# Altium schematic symbol library Schlib1.SchLib: 56 symbols
Pins are listed as number, name and electrical type; pins without a type are passive.

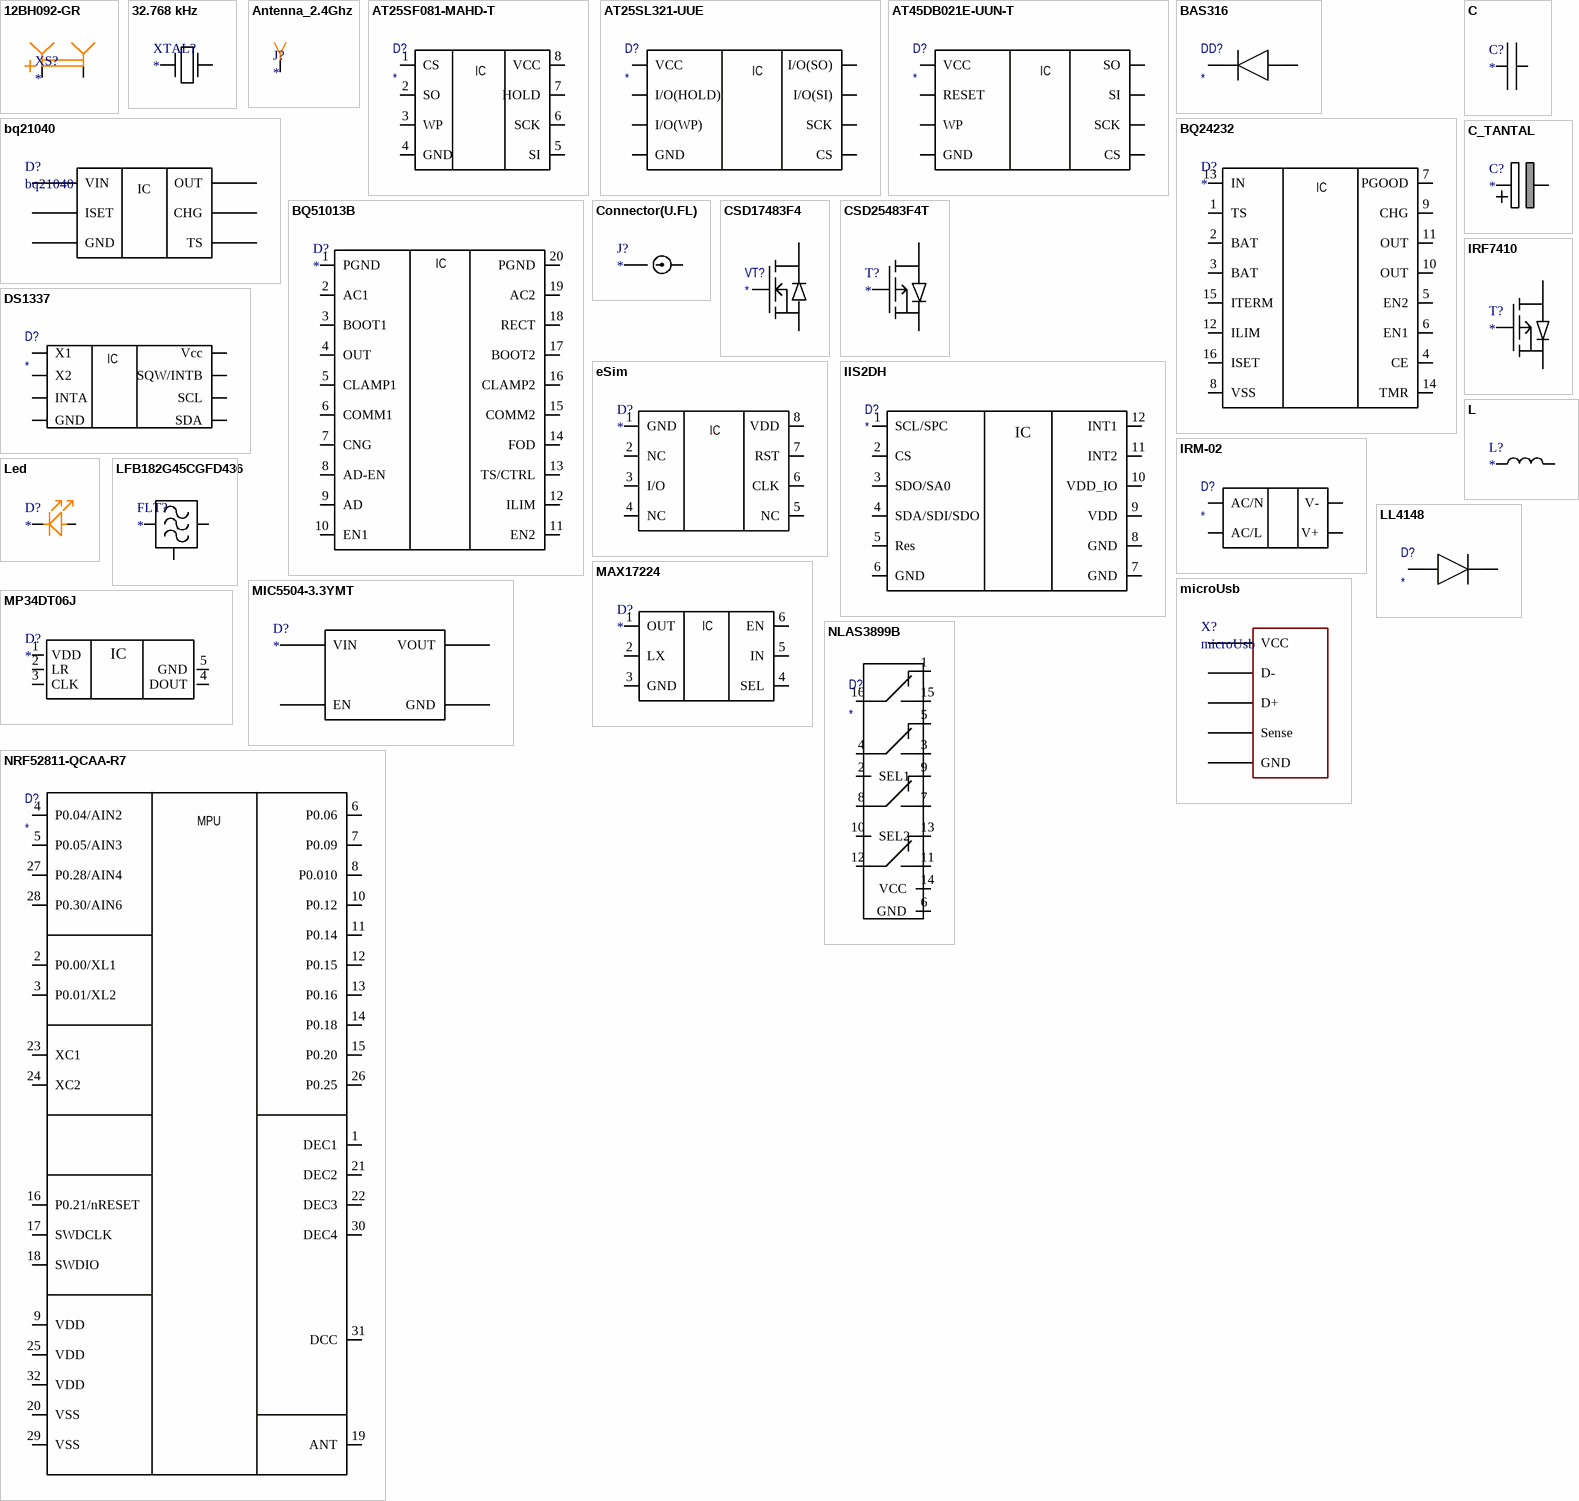
[diagram p0: symbols 12BH092-GR to NRF52811-QCAA-R7]

## 12BH092-GR
designator XS?
footprint 12BH092-GR
pins: 1, 2

## 32.768 kHz
designator XTAL?
footprint NX2012SA
footprint SP-T2A-F
footprint NX3215SA
pins: 1, 2

## Antenna_2.4Ghz
designator J?
footprint Antenna_2.4Ghz
pins: 1

## AT25SF081-MAHD-T
designator D?
footprint UDFN8
pins: 1 CS, 2 SO, 3 WP, 4 GND, 5 SI, 6 SCK, 7 HOLD, 8 VCC
text: IC

## AT25SL321-UUE
designator D?
footprint 8WLCSP
pins: A1 VCC, A2 CS, B1 I/O(HOLD), B2 I/O(SO), C1 SCK, C2 I/O(WP), D1 I/O(SI), D2 GND
text: IC

## AT45DB021E-UUN-T
designator D?
footprint 8WLCSP
pins: A1 CS, A2 WP, B1 RESET, B2 VCC, C1 SCK, C2 GND, D1 SI, D2 SO
text: IC

## BAS316
designator DD?
footprint BAS316
pins: 1, 2

## bq21040
designator D?
footprint SOT-23
pins: 1 TS, 2 OUT, 3 CHG, 4 ISET, 5 GND, 6 VIN
text: IC

## BQ24232
designator D?
footprint VQFN-16
pins: 1 TS, 2 BAT, 3 BAT, 4 CE, 5 EN2, 6 EN1, 7 PGOOD, 8 VSS, 9 CHG, 10 OUT, 11 OUT, 12 ILIM, 13 IN, 14 TMR, 15 ITERM, 16 ISET
text: IC

## BQ51013B
designator D?
footprint VQFN20
footprint DSBGA
pins: 1 PGND, 2 AC1, 3 BOOT1, 4 OUT, 5 CLAMP1, 6 COMM1, 7 CNG, 8 AD-EN, 9 AD, 10 EN1, 11 EN2, 12 ILIM, 13 TS/CTRL, 14 FOD, 15 COMM2, 16 CLAMP2, 17 BOOT2, 18 RECT, 19 AC2, 20 PGND
text: IC

## C
designator C?
footprint C0402
footprint C0805
pins: 1, 2

## C_TANTAL
designator C?
footprint C_TYPE_D
pins: 1, 2

## Connector(U.FL)
designator J?
footprint U.FL
pins: 1, 2

## CSD17483F4
designator VT?
footprint CSD17483F4
pins: 1, 2, 3

## CSD25483F4T
designator T?
footprint CSD17483F4
pins: 1, 2, 3

## DS1337
designator D?
footprint uSOP8
pins: 1 X1, 2 X2, 3 INTA, 4 GND, 5 SDA, 6 SCL, 7 SQW/INTB, 8 Vcc
text: IC

## eSim
designator D?
footprint VQFN8
pins: 1 GND, 2 NC, 3 I/O, 4 NC, 5 NC, 6 CLK, 7 RST, 8 VDD
text: IC

## IIS2DH
designator D?
footprint LGA12
pins: 1 SCL/SPC, 2 CS, 3 SDO/SA0, 4 SDA/SDI/SDO, 5 Res, 6 GND, 7 GND, 8 GND, 9 VDD, 10 VDD_IO, 11 INT2, 12 INT1
text: IC

## IRF7410
designator T?
footprint SO8
pins: 1, 4, 5

## IRM-02
designator D?
footprint IRM-02
pins: 1 V-, 2 V+, 3 AC/L, 4 AC/N

## L
designator L?
footprint L0402
footprint L0805
footprint L1608
footprint L2016
pins: 1, 2

## Led
designator D?
footprint D0402(1006)
footprint SMD2106
pins: 1, 2

## LFB182G45CGFD436
designator FLT?
footprint LFB182G45CGFD436
pins: 1, 2, 3

## LL4148
designator D?
footprint LL4148
pins: 1, 2

## MAX17224
designator D?
footprint uDFN-6
pins: 1 OUT, 2 LX, 3 GND, 4 SEL, 5 IN, 6 EN
text: IC

## MIC5504-3.3YMT
designator D?
footprint TDFN4
pins: 1 VOUT, 2 GND, 3 EN, 4 VIN

## microUsb
designator X?
footprint 10118194-0001LF
pins: 1 VCC, 2 D-, 3 D+, 4 Sense, 5 GND

## MP34DT06J
designator D?
footprint MP34DT06J
pins: 1 VDD, 2 LR, 3 CLK, 4 DOUT, 5 GND
text: IC

## NLAS3899B
designator D?
footprint QFN16
pins: 1, 2 SEL1, 3, 4, 5, 6 GND, 7, 8, 9, 10 SEL2, 11, 12, 13, 14 VCC, 15, 16

## NRF52811-QCAA-R7
designator D?
footprint QFN32_nrf52811
pins: 1 DEC1, 2 P0.00/XL1, 3 P0.01/XL2, 4 P0.04/AIN2, 5 P0.05/AIN3, 6 P0.06, 7 P0.09, 8 P0.010, 9 VDD, 10 P0.12, 11 P0.14, 12 P0.15, 13 P0.16, 14 P0.18, 15 P0.20, 16 P0.21/nRESET, 17 SWDCLK, 18 SWDIO, 19 ANT, 20 VSS, 21 DEC2, 22 DEC3, 23 XC1, 24 XC2, 25 VDD, 26 P0.25, 27 P0.28/AIN4, 28 P0.30/AIN6, 29 VSS, 30 DEC4, 31 DCC, 32 VDD
text: MPU

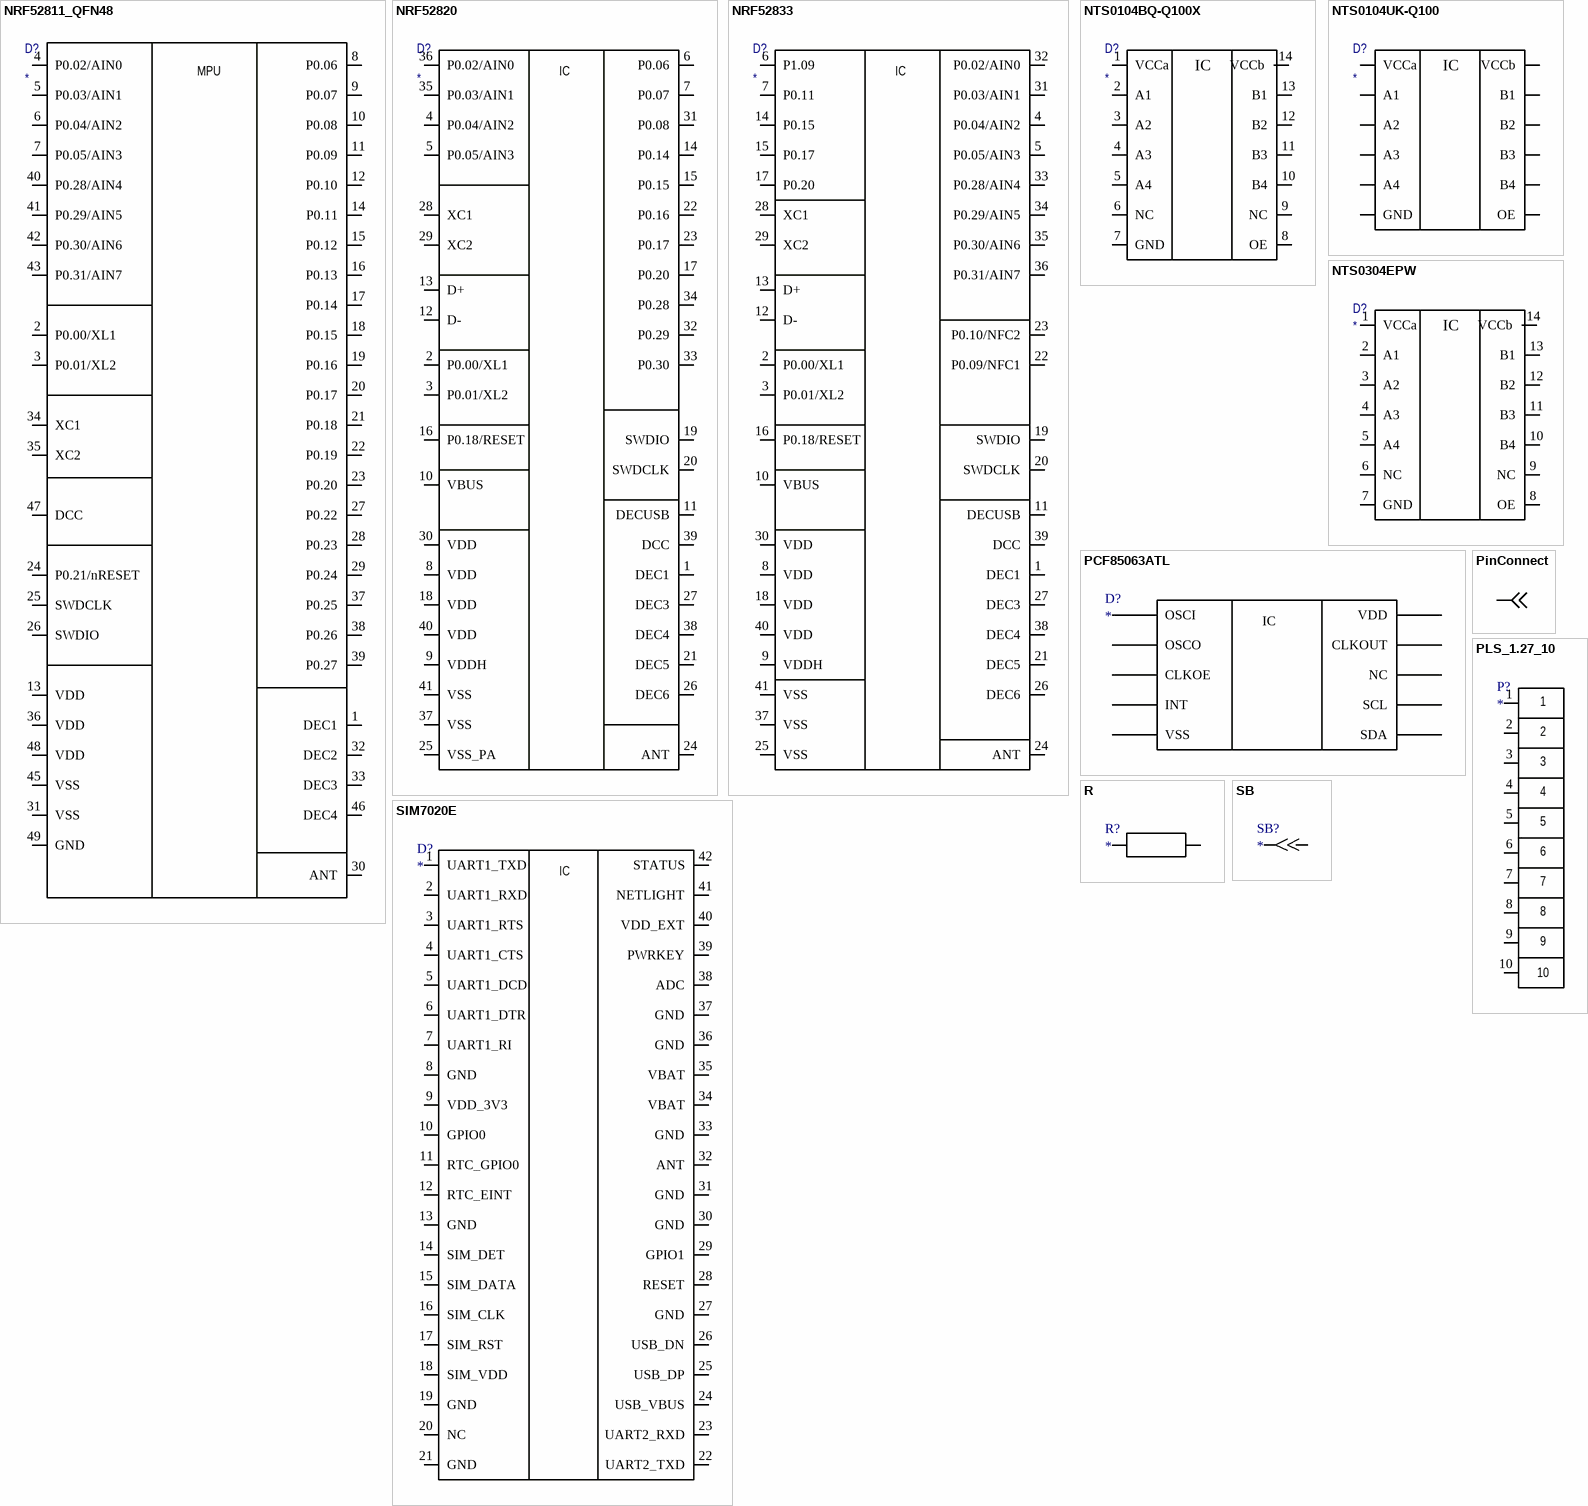
[diagram p1: symbols NRF52811_QFN48 to SIM7020E]

## NRF52811_QFN48
designator D?
footprint QFN48
pins: 1 DEC1, 2 P0.00/XL1, 3 P0.01/XL2, 4 P0.02/AIN0, 5 P0.03/AIN1, 6 P0.04/AIN2, 7 P0.05/AIN3, 8 P0.06, 9 P0.07, 10 P0.08, 11 P0.09, 12 P0.10, 13 VDD, 14 P0.11, 15 P0.12, 16 P0.13, 17 P0.14, 18 P0.15, 19 P0.16, 20 P0.17, 21 P0.18, 22 P0.19, 23 P0.20, 24 P0.21/nRESET, 25 SWDCLK, 26 SWDIO, 27 P0.22, 28 P0.23, 29 P0.24, 30 ANT, 31 VSS, 32 DEC2, 33 DEC3, 34 XC1, 35 XC2, 36 VDD, 37 P0.25, 38 P0.26, 39 P0.27, 40 P0.28/AIN4, 41 P0.29/AIN5, 42 P0.30/AIN6, 43 P0.31/AIN7, 45 VSS, 46 DEC4, 47 DCC, 48 VDD, 49 GND
text: MPU

## NRF52820
designator D?
footprint QFN40
pins: 1 DEC1, 2 P0.00/XL1, 3 P0.01/XL2, 4 P0.04/AIN2, 5 P0.05/AIN3, 6 P0.06, 7 P0.07, 8 VDD, 9 VDDH, 10 VBUS, 11 DECUSB, 12 D-, 13 D+, 14 P0.14, 15 P0.15, 16 P0.18/RESET, 17 P0.20, 18 VDD, 19 SWDIO, 20 SWDCLK, 21 DEC5, 22 P0.16, 23 P0.17, 24 ANT, 25 VSS_PA, 26 DEC6, 27 DEC3, 28 XC1, 29 XC2, 30 VDD, 31 P0.08, 32 P0.29, 33 P0.30, 34 P0.28, 35 P0.03/AIN1, 36 P0.02/AIN0, 37 VSS, 38 DEC4, 39 DCC, 40 VDD, 41 VSS
text: IC

## NRF52833
designator D?
footprint QFN40
pins: 1 DEC1, 2 P0.00/XL1, 3 P0.01/XL2, 4 P0.04/AIN2, 5 P0.05/AIN3, 6 P1.09, 7 P0.11, 8 VDD, 9 VDDH, 10 VBUS, 11 DECUSB, 12 D-, 13 D+, 14 P0.15, 15 P0.17, 16 P0.18/RESET, 17 P0.20, 18 VDD, 19 SWDIO, 20 SWDCLK, 21 DEC5, 22 P0.09/NFC1, 23 P0.10/NFC2, 24 ANT, 25 VSS, 26 DEC6, 27 DEC3, 28 XC1, 29 XC2, 30 VDD, 31 P0.03/AIN1, 32 P0.02/AIN0, 33 P0.28/AIN4, 34 P0.29/AIN5, 35 P0.30/AIN6, 36 P0.31/AIN7, 37 VSS, 38 DEC4, 39 DCC, 40 VDD, 41 VSS
text: IC

## NTS0104BQ-Q100X
designator D?
footprint QFN14
pins: 1 VCCa, 2 A1, 3 A2, 4 A3, 5 A4, 6 NC, 7 GND, 8 OE, 9 NC, 10 B4, 11 B3, 12 B2, 13 B1, 14 VCCb
text: IC

## NTS0104UK-Q100
designator D?
footprint WLCSP12 (BGA, 12-Leads, Body 1,20x1,60mmx0,60mm, Pitch 0,40mm)
pins: A1 B1, A2 VCCb, A3 A1, B1 B2, B2 VCCa, B3 A2, C1 B3, C2 OE, C3 A3, D1 B4, D2 GND, D3 A4
text: IC

## NTS0304EPW
designator D?
footprint TSSOP14
pins: 1 VCCa, 2 A1, 3 A2, 4 A3, 5 A4, 6 NC, 7 GND, 8 OE, 9 NC, 10 B4, 11 B3, 12 B2, 13 B1, 14 VCCb
text: IC

## PCF85063ATL
designator D?
footprint DFN2626-10
pins: 1 OSCI, 2 OSCO, 3 CLKOE, 4 INT, 5 VSS, 6 SDA, 7 SCL, 8 NC, 9 CLKOUT, 10 VDD
text: IC

## PinConnect
designator X?  (value not drawn)
footprint PinConnect
footprint PinConnect2
footprint PINCONNECT3
pins: 1

## PLS_1.27_10
designator P?
footprint PLS_1.27_10
pins: 1, 2, 3, 4, 5, 6, 7, 8, 9, 10

## R
designator R?
footprint R0402
pins: 1, 2

## SB
designator SB?
footprint SB
pins: 1, 2

## SIM7020E
designator D?
footprint SIM7020E
pins: 1 UART1_TXD, 2 UART1_RXD, 3 UART1_RTS, 4 UART1_CTS, 5 UART1_DCD, 6 UART1_DTR, 7 UART1_RI, 8 GND, 9 VDD_3V3, 10 GPIO0, 11 RTC_GPIO0, 12 RTC_EINT, 13 GND, 14 SIM_DET, 15 SIM_DATA, 16 SIM_CLK, 17 SIM_RST, 18 SIM_VDD, 19 GND, 20 NC, 21 GND, 22 UART2_TXD, 23 UART2_RXD, 24 USB_VBUS, 25 USB_DP, 26 USB_DN, 27 GND, 28 RESET, 29 GPIO1, 30 GND, 31 GND, 32 ANT, 33 GND, 34 VBAT, 35 VBAT, 36 GND, 37 GND, 38 ADC, 39 PWRKEY, 40 VDD_EXT, 41 NETLIGHT, 42 STATUS
text: IC

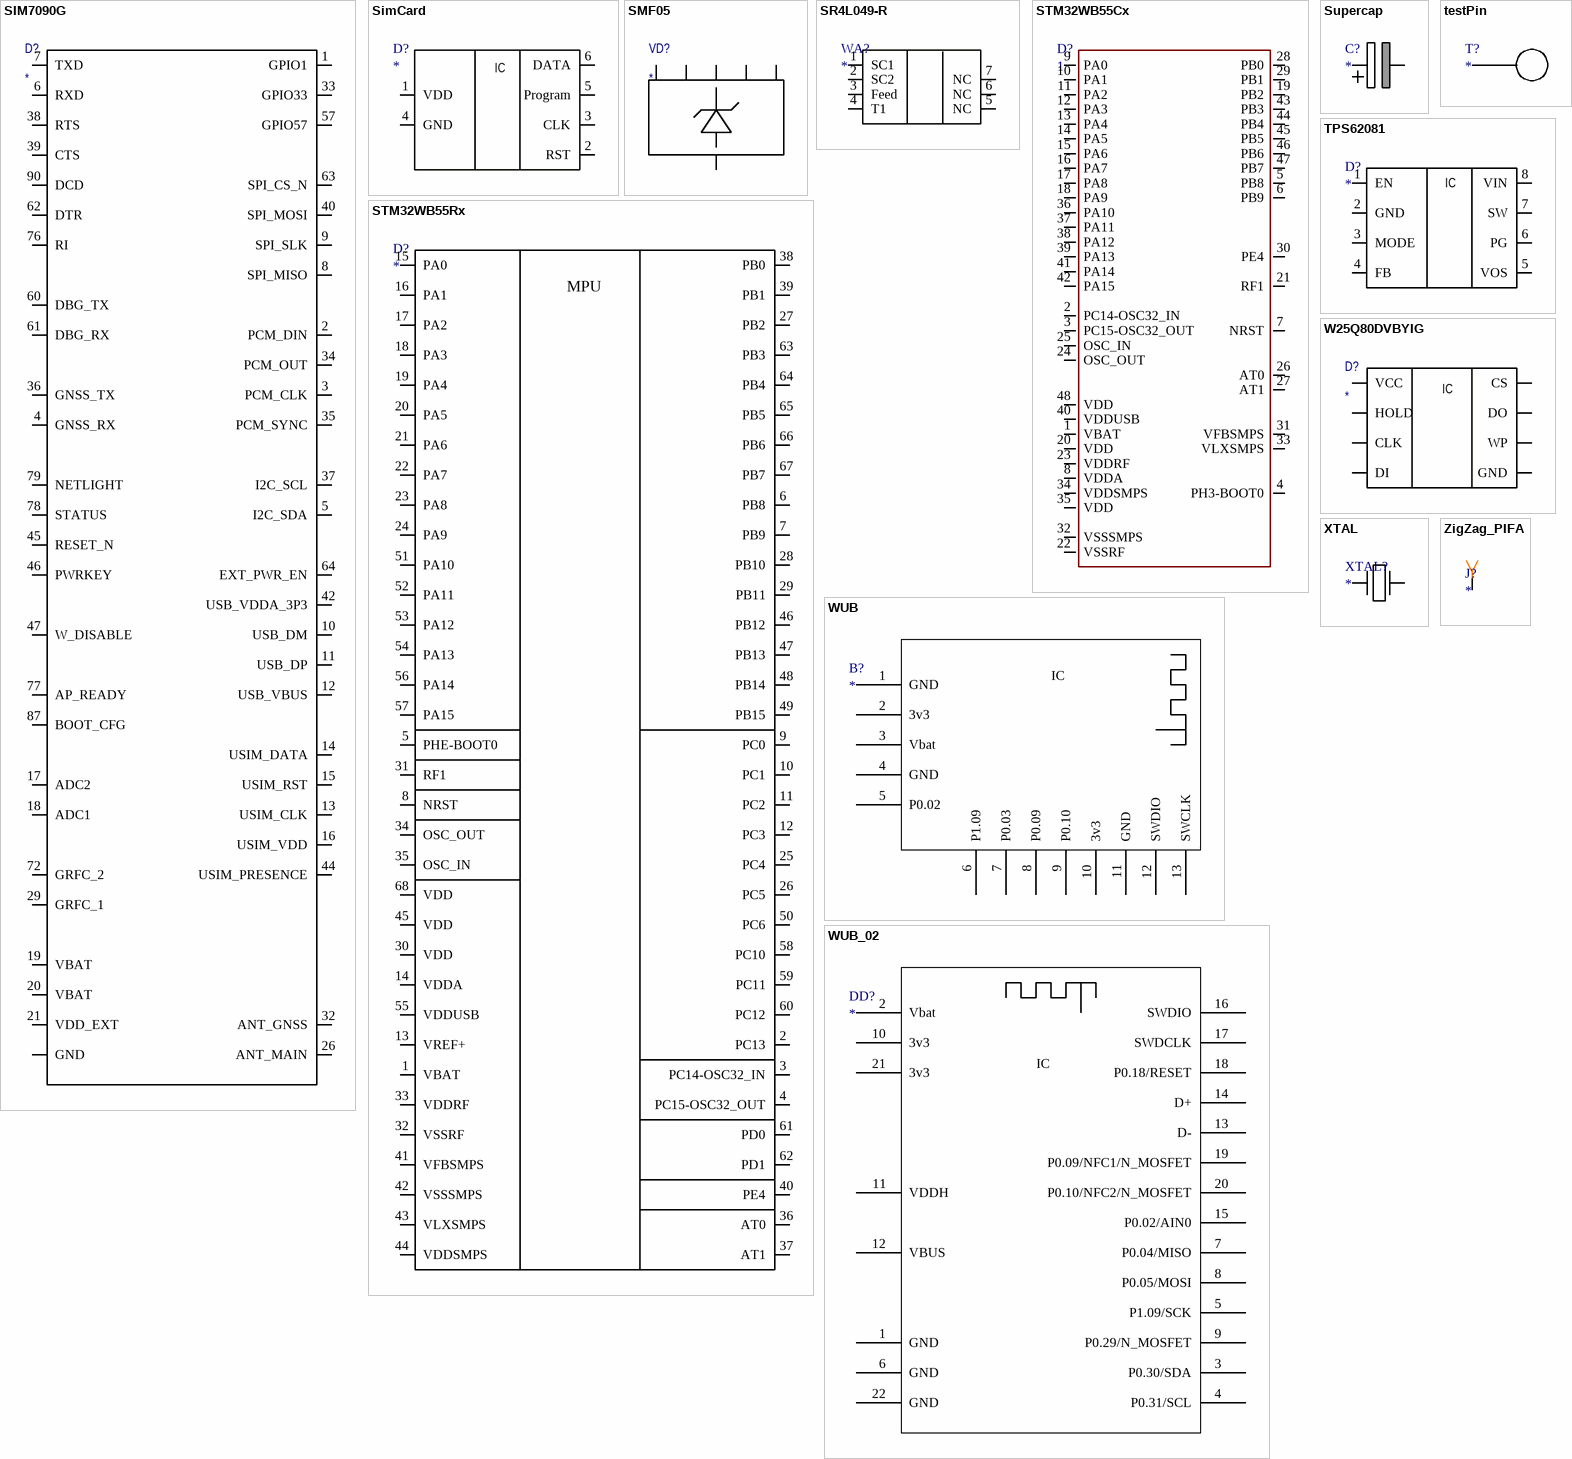
[diagram p2: symbols SIM7090G to ZigZag_PIFA]

## SIM7090G
designator D?
footprint SIM7090G
pins: 1 GPIO1, 2 PCM_DIN, 3 PCM_CLK, 4 GNSS_RX, 5 I2C_SDA, 6 RXD, 7 TXD, 8 SPI_MISO, 9 SPI_SLK, 10 USB_DM, 11 USB_DP, 12 USB_VBUS, 13 USIM_CLK, 14 USIM_DATA, 15 USIM_RST, 16 USIM_VDD, 17 ADC2, 18 ADC1, 19 VBAT, 20 VBAT, 21 VDD_EXT, 22 GND, 23 GND hidden to GND, 24 GND hidden to GND, 25 GND hidden to GND, 26 ANT_MAIN, 27 GND hidden to GND, 28 GND hidden to GND, 29 GRFC_1, 30 GND hidden to GND, 31 GND hidden to GND, 32 ANT_GNSS, 33 GPIO33, 34 PCM_OUT, 35 PCM_SYNC, 36 GNSS_TX, 37 I2C_SCL, 38 RTS, 39 CTS, 40 SPI_MOSI, 42 USB_VDDA_3P3, 43 GND hidden to GND, 44 USIM_PRESENCE, 45 RESET_N, 46 PWRKEY, 47 W_DISABLE, 52 GND hidden to GND, 53 GND hidden to GND, 54 GND hidden to GND, 55 GND hidden to GND, 56 GND hidden to GND, 57 GPIO57, 58 GND hidden to GND, 60 DBG_TX, 61 DBG_RX, 62 DTR, 63 SPI_CS_N, 64 EXT_PWR_EN, 65 GND hidden to GND, 66 GND hidden to GND, 72 GRFC_2, 73 GND hidden to GND, 74 GND hidden to GND, 75 GND hidden to GND, 76 RI, 77 AP_READY, 78 STATUS, 79 NETLIGHT, 84 GND hidden to GND, 85 GND hidden to GND, 86 GND hidden to GND, 87 BOOT_CFG, 88 GND hidden to GND, 89 GND hidden to GND, 90 DCD

## SimCard
designator D?
footprint 104224-0820
pins: 1 VDD, 2 RST, 3 CLK, 4 GND, 5 Program, 6 DATA
text: IC

## SMF05
designator VD?
footprint sot-363
pins: 1, 2, 3, 4, 5, 6

## SR4L049-R
designator WA?
footprint SR4L049-R
pins: 1 SC1, 2 SC2, 3 Feed, 4 T1, 5 NC, 6 NC, 7 NC

## STM32WB55Cx
designator D?, comment 1
footprint UFQFPN48
pins: 1 VBAT, 2 PC14-OSC32_IN, 3 PC15-OSC32_OUT, 4 PH3-BOOT0, 5 PB8, 6 PB9, 7 NRST, 8 VDDA, 9 PA0, 10 PA1, 11 PA2, 12 PA3, 13 PA4, 14 PA5, 15 PA6, 16 PA7, 17 PA8, 18 PA9, 19 PB2, 20 VDD, 21 RF1, 22 VSSRF, 23 VDDRF, 24 OSC_OUT, 25 OSC_IN, 26 AT0, 27 AT1, 28 PB0, 29 PB1, 30 PE4, 31 VFBSMPS, 32 VSSSMPS, 33 VLXSMPS, 34 VDDSMPS, 35 VDD, 36 PA10, 37 PA11, 38 PA12, 39 PA13, 40 VDDUSB, 41 PA14, 42 PA15, 43 PB3, 44 PB4, 45 PB5, 46 PB6, 47 PB7, 48 VDD

## STM32WB55Rx
designator D?
footprint VFQFPN68
pins: 1 VBAT, 2 PC13, 3 PC14-OSC32_IN, 4 PC15-OSC32_OUT, 5 PHE-BOOT0, 6 PB8, 7 PB9, 8 NRST, 9 PC0, 10 PC1, 11 PC2, 12 PC3, 13 VREF+, 14 VDDA, 15 PA0, 16 PA1, 17 PA2, 18 PA3, 19 PA4, 20 PA5, 21 PA6, 22 PA7, 23 PA8, 24 PA9, 25 PC4, 26 PC5, 27 PB2, 28 PB10, 29 PB11, 30 VDD, 31 RF1, 32 VSSRF, 33 VDDRF, 34 OSC_OUT, 35 OSC_IN, 36 AT0, 37 AT1, 38 PB0, 39 PB1, 40 PE4, 41 VFBSMPS, 42 VSSSMPS, 43 VLXSMPS, 44 VDDSMPS, 45 VDD, 46 PB12, 47 PB13, 48 PB14, 49 PB15, 50 PC6, 51 PA10, 52 PA11, 53 PA12, 54 PA13, 55 VDDUSB, 56 PA14, 57 PA15, 58 PC10, 59 PC11, 60 PC12, 61 PD0, 62 PD1, 63 PB3, 64 PB4, 65 PB5, 66 PB6, 67 PB7, 68 VDD
text: MPU

## Supercap
designator C?
footprint Supercap_5mm
pins: 1, 2

## testPin
designator T?
footprint testPin_08
pins: 1

## TPS62081
designator D?
footprint WSON8
pins: 1 EN, 2 GND, 3 MODE, 4 FB, 5 VOS, 6 PG, 7 SW, 8 VIN
text: IC

## W25Q80DVBYIG
designator D?
footprint WLCSP8
pins: A1 VCC, A2 CS, B1 HOLD, B2 DO, C1 CLK, C2 WP, D1 DI, D2 GND
text: IC

## WUB
designator B?
footprint WUB_01
pins: 1 GND, 2 3v3, 3 Vbat, 4 GND, 5 P0.02, 6 P1.09, 7 P0.03, 8 P0.09, 9 P0.10, 10 3v3, 11 GND, 12 SWDIO, 13 SWCLK
text: IC

## WUB_02
designator DD?
footprint WUB_02
pins: 1 GND, 2 Vbat, 3 P0.30/SDA, 4 P0.31/SCL, 5 P1.09/SCK, 6 GND, 7 P0.04/MISO, 8 P0.05/MOSI, 9 P0.29/N_MOSFET, 10 3v3, 11 VDDH, 12 VBUS, 13 D-, 14 D+, 15 P0.02/AIN0, 16 SWDIO, 17 SWDCLK, 18 P0.18/RESET, 19 P0.09/NFC1/N_MOSFET, 20 P0.10/NFC2/N_MOSFET, 21 3v3, 22 GND
text: IC

## XTAL
designator XTAL?
footprint NX2012SA
footprint NX2016SA
pins: 1, 2

## ZigZag_PIFA
designator J?
footprint ZigZag_PIFA
pins: 1